# EAGLE library part MICROCHIP_CAN_MCP25625_SSOP (library template_board)
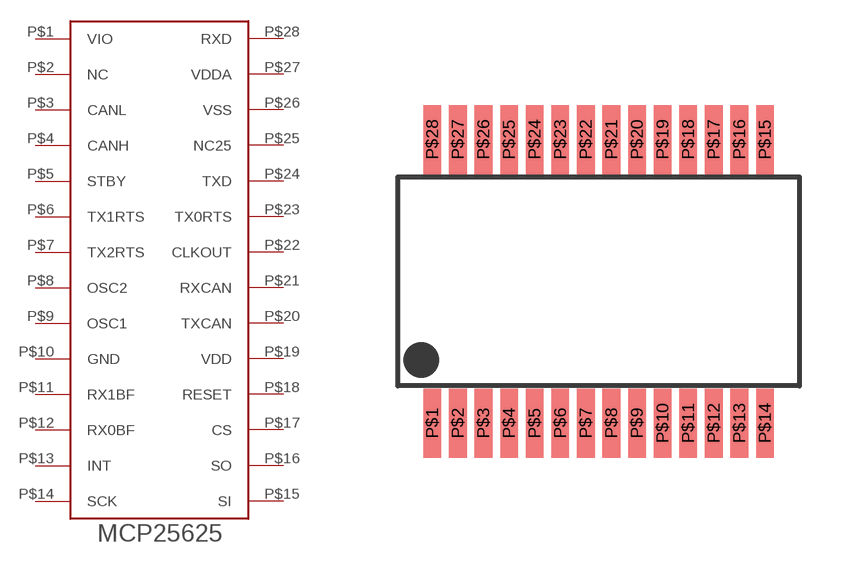
[diagram p11: symbol with the pads of SSOP-28; footprint SSOP-28]

Designator prefix -

## MICROCHIP_CAN_MCP25625_SSOP  [SSOP-28]
P$1  VIO
P$2  NC
P$3  CANL
P$4  CANH
P$5  STBY
P$6  TX1RTS
P$7  TX2RTS
P$8  OSC2
P$9  OSC1
P$10  GND
P$11  RX1BF
P$12  RX0BF
P$13  INT
P$14  SCK
P$15  SI
P$16  SO
P$17  CS
P$18  RESET
P$19  VDD
P$20  TXCAN
P$21  RXCAN
P$22  CLKOUT
P$23  TX0RTS
P$24  TXD
P$25  NC25
P$26  VSS
P$27  VDDA
P$28  RXD

## Footprint SSOP-28 (pad centres in mm)
smd 0.45 x 1.75: P$1 -4.225,-3.6; P$2 -3.575,-3.6; P$3 -2.925,-3.6; P$4 -2.275,-3.6; P$5 -1.625,-3.6; P$6 -0.975,-3.6; P$7 -0.325,-3.6; P$8 0.325,-3.6; P$9 0.975,-3.6; P$10 1.625,-3.6; P$11 2.275,-3.6; P$12 2.925,-3.6; P$13 3.575,-3.6; P$14 4.225,-3.6; P$15 4.225,3.6; P$16 3.575,3.6; P$17 2.925,3.6; P$18 2.275,3.6; P$19 1.625,3.6; P$20 0.975,3.6; P$21 0.325,3.6; P$22 -0.325,3.6; P$23 -0.975,3.6; P$24 -1.625,3.6; P$25 -2.275,3.6; P$26 -2.925,3.6; P$27 -3.575,3.6; P$28 -4.225,3.6